# EAGLE library part SN65HVD230DR (library UWAFT_Parts)
3.3 V CAN Transceiver with Standby Mode Source: Datasheet <http://www.ti.com/lit/gpn/sn65hvd230>
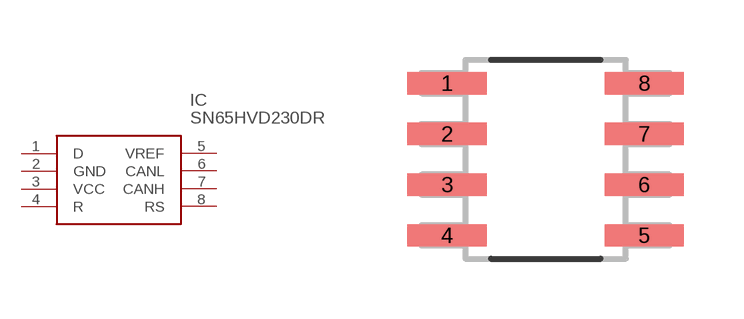
[diagram p3: symbol with the pads of SOIC127P600X175-8N; footprint SOIC127P600X175-8N]

Designator prefix IC

## SN65HVD230DR (ARROW_PART_NUMBER: SN65HVD230DR; ARROW_PRICE-STOCK: https://www.arrow.com/en/products/sn65hvd230dr/texas-instruments; DESCRIPTION: 3.3 V CAN Transceiver with Standby Mode; HEIGHT: mm; MANUFACTURER_NAME: Texas Instruments; MANUFACTURER_PART_NUMBER: SN65HVD230DR)  [SOIC127P600X175-8N]
1  D
2  GND
3  VCC
4  R
5  VREF
6  CANL
7  CANH
8  RS

## Footprint SOIC127P600X175-8N (pad centres in mm)
SOIC127P600X175-8N
smd 1.981 x 0.559: 1 -2.464,1.905; 2 -2.464,0.635; 3 -2.464,-0.635; 4 -2.464,-1.905; 5 2.464,-1.905; 6 2.464,-0.635; 7 2.464,0.635; 8 2.464,1.905